# EAGLE library part HD-M512RD (library LED displeje)
LED displej 14,2 mm 4 mist
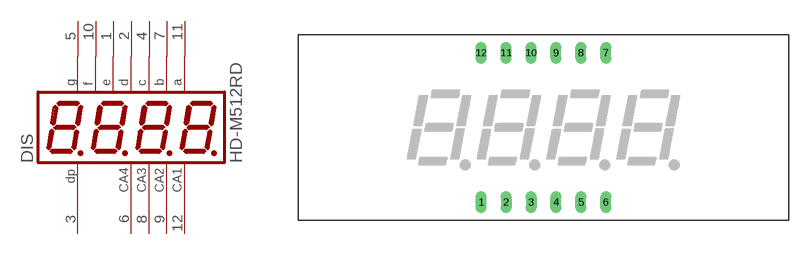
[diagram p29: symbol with the pads of HD-M51X; footprint HD-M51X]

Designator prefix DIS

## HD-M512RD  [HD-M51X]
1  E  pas
2  D  pas
3  DP  pas
4  C  pas
5  G  pas
6  CA4  pas
7  B  pas
8  CA3  pas
9  CA2  pas
10  F  pas
11  A  pas
12  CA1  pas

## Footprint HD-M51X (pad centres in mm)
drill 0.61 long: 1 -6.35,-7.62; 2 -3.81,-7.62; 3 -1.27,-7.62; 4 1.27,-7.62; 5 3.81,-7.62; 6 6.35,-7.62; 7 6.35,7.62; 8 3.81,7.62; 9 1.27,7.62; 10 -1.27,7.62; 11 -3.81,7.62; 12 -6.35,7.62